# Altium schematic symbol library 2021-03-05_17-49-49.SchLib: 1 symbol
Pins are listed as number, name and electrical type; pins without a type are passive.

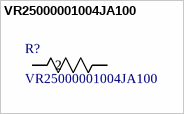
[diagram p0: symbol VR25000001004JA100]

## VR25000001004JA100
designator R?
No Description Available; Vendor: Vishay; Built_By: EMA_UL_Team; Manufacturer_Part_Number: VR25000001004JA100; Copyright: Copyright (C) 2018 Accelerated Designs. All rights reserved; RefDes: RefDes; Type: DEV
footprint RES_VR25
pins: 1, 2